# Altium footprint library DO-35.PcbLib: 1 footprints
Each footprint in its own frame and in the unit in brackets; x right, y up, seen from the top. Pads: shape width x height; smd on the part's side, far side on the other; paste and mask are expansions set on the pad; w line width, h text height; cw(c..) or ccw(c..) is an arc to the next point about the centre after c.
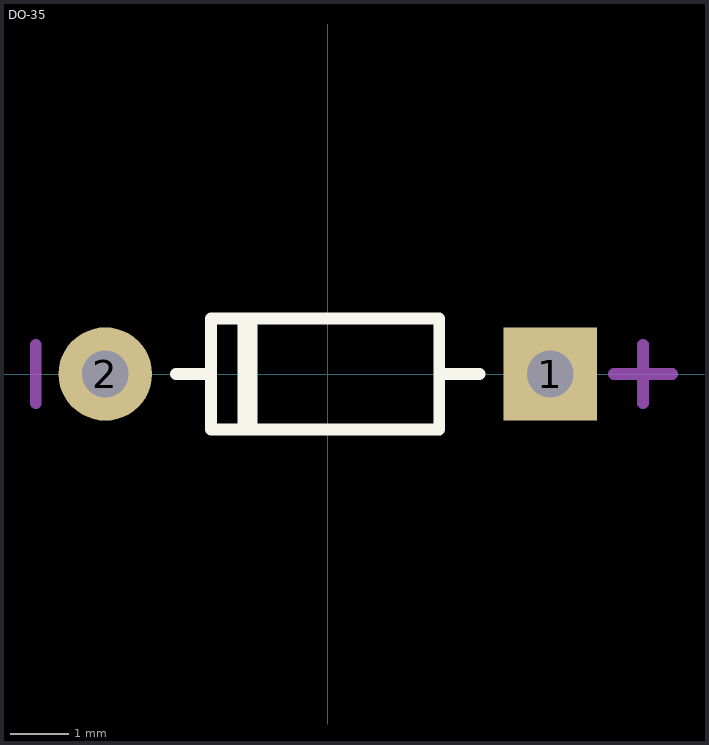
[diagram p0: the footprint, top view; thin cyan lines are the x and y axes]

## DO-35 [mm]
pads (2):
  rect 1.6x1.6 hole 0.8: 1(3.81,0)
  round 1.6 hole 0.8: 2(-3.81,0)
Top Overlay:
  lines w0.2: -2.6,0 -2.001,0 ; -1.448,-0.95 -1.448,0.95 ; -1.3,-0.95 -1.3,0.95 ; 1.899,-0.95 -2.001,-0.95 -2.001,0.95 1.899,0.95 ; 1.911,-0.95 1.911,0.95 ; 1.911,0 2.6,0
Mechanical 15:
  lines w0.203: -5,-0.5 -5,0.5 ; 4.9,0 5.9,0 ; 5.4,-0.5 5.4,0.5
3D body: height 1.92, standoff -1.9, extent -4.098,-0.888 4.072,0.914